# Altium footprint library REC_08.PcbLib: 10 footprints
Each footprint in its own frame and in the unit in brackets; x right, y up, seen from the top. Pads: shape width x height; smd on the part's side, far side on the other; paste and mask are expansions set on the pad; w line width, h text height; cw(c..) or ccw(c..) is an arc to the next point about the centre after c.
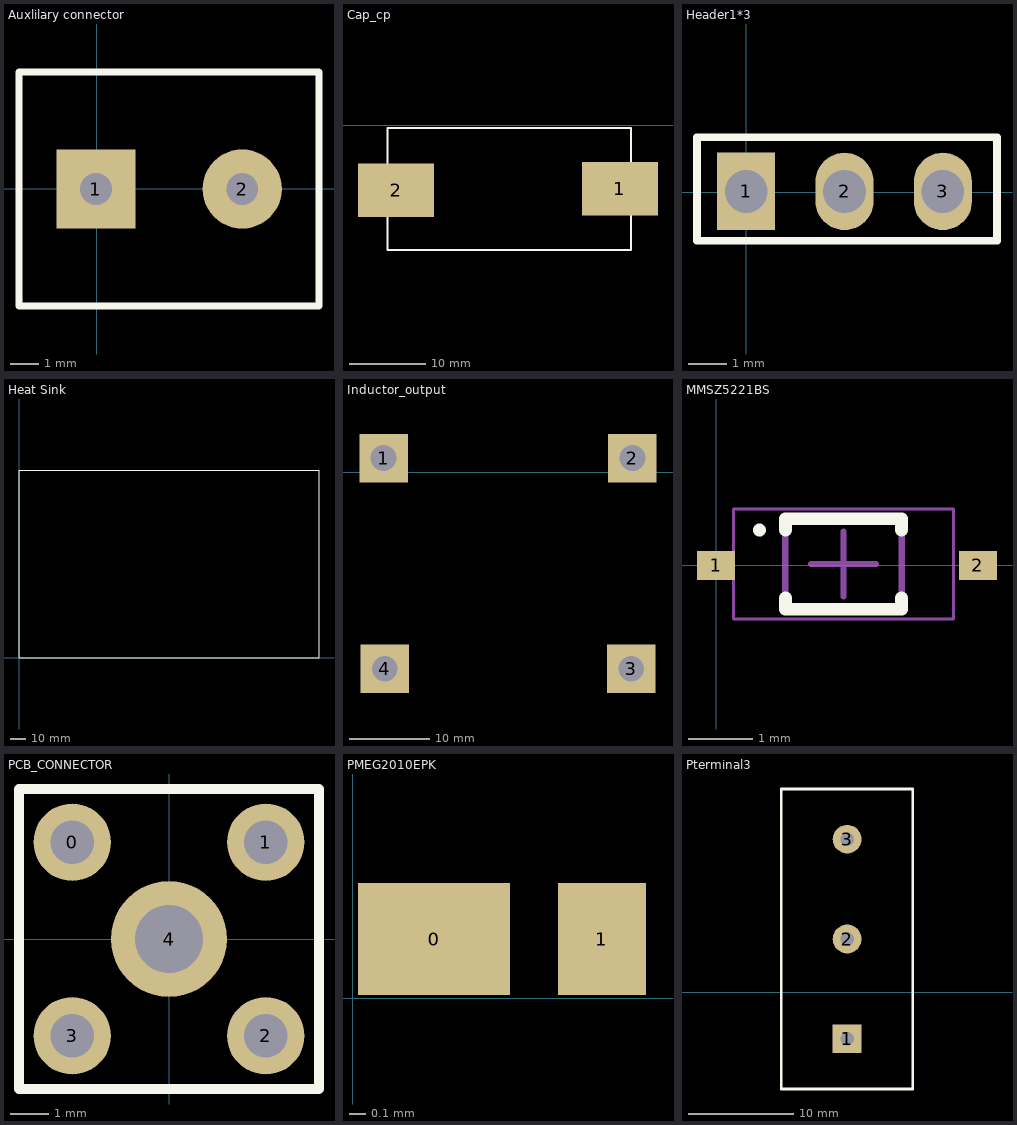
[diagram p0: the footprints below, top view; thin cyan lines are the x and y axes]

## Auxlilary connector [mm]
pads (2):
  rect 2.75x2.75 hole 1.1: 1(-0.027,-0.016)
  round 2.75 hole 1.1: 2(5.048,-0.016)
Top Overlay:
  lines w0.254: -2.699,-4.08 7.715,-4.08 7.715,4.048 -2.699,4.048 -2.699,-4.08

## Cap_cp [mm]
pads (2):
  rect 10x7 smd: 1(40.972,-8.387) 2(11.534,-8.565)
Top Overlay:
  lines w0.254: 10.391,-16.414 42.395,-16.414 42.395,-0.412 10.391,-0.412 10.391,-16.414
3D body: height 22.78, standoff 0, extent 10.264,-16.541 42.522,-0.285

## Header1*3 [mm]
pads (3):
  rect 1.5x2 hole 1.1: 1(-0.005,0.022)
  oval 1.5x2 hole 1.1: 2(2.535,0.022) 3(5.075,0.022)
Top Overlay:
  lines w0.2: -1.275,-1.248 -1.275,1.419 2.535,1.419 6.472,1.419 6.472,-1.248 3.678,-1.248 -1.275,-1.248

## Heat Sink [mm]
Top Overlay:
  lines w0.254: 0,0 200,0 200,125.14 0,125.14 0,0
3D body: height 25, standoff 0, extent -0.038,-0.038 200.011,125.14

## Inductor_output [mm]
pads (4):
  rect 6x6 hole 3.2: 1(-46.982,1.768) 2(-16.248,1.768) 3(-16.375,-24.267) 4(-46.855,-24.267)
Bottom Overlay:
  lines w0.254: -50.157,-27.569 -50.157,4.943 -13.073,4.943 -13.073,-27.569 -50.157,-27.569
3D body: height 27.94, standoff 0, extent -50.083,-27.369 -13.146,4.869

## MMSZ5221BS [mm] "SODFL, 2-Leads, Body 1.30x2.50mm, IPC Medium Density"
height 1
pads (2):
  rect 0.59x0.45 smd: 1(0,0) 2(4.05,0)
Top Overlay:
  circle w0.1: c0.671,0.547 r0.05
  lines w0.2: 1.071,-0.503 1.071,-0.678 2.871,-0.678 2.871,-0.503 ; 1.071,0.547 1.071,0.722 2.871,0.722 2.871,0.547
Mechanical 13:
  lines w0.1: 1.071,-0.678 2.871,-0.678 2.871,0.722 1.071,0.722 1.071,-0.678
Mechanical 15:
  lines w0.05: 0.271,-0.828 3.671,-0.828 3.671,0.872 0.271,0.872 0.271,-0.828
  lines w0.1: 1.471,0.022 2.471,0.022 ; 1.971,-0.478 1.971,0.522
3D body: height 1, standoff 0, extent 1.071,-0.678 2.871,0.722

## MMSZ5235BS [mm]

## PCB_CONNECTOR [mil]
pads (5):
  round 80 hole 45: 0(-100.43,100) 1(99.57,100) 2(99.57,-100) 3(-100.43,-100)
  round 120 hole 70: 4(-0.43,0)
Top Overlay:
  lines w10: -155.43,-155 -155.43,155 154.57,155 154.57,-155 -155.43,-155

## PMEG2010EPK [mm]
pads (2):
  rect 0.95x0.7 smd: 0(0.508,0.37)
  rect 0.55x0.7 smd: 1(1.558,0.37)

## Pterminal3 [mm]
pads (3):
  rect 2.75x2.75 hole 1.3: 1(-20.039,-4.423)
  round 2.75 hole 1.3: 2(-20.039,5.097) 3(-20.039,14.617)
Top Overlay:
  lines w0.254: -26.339,-9.213 -13.769,-9.213 -13.769,19.407 -26.339,19.407 -26.339,-9.213